# Altium footprint library Soardra.PcbLib: 139 footprints (part 5 of 9)
Each footprint in its own frame and in the unit in brackets; x right, y up, seen from the top. Pads: shape width x height; smd on the part's side, far side on the other; paste and mask are expansions set on the pad; w line width, h text height; cw(c..) or ccw(c..) is an arc to the next point about the centre after c.
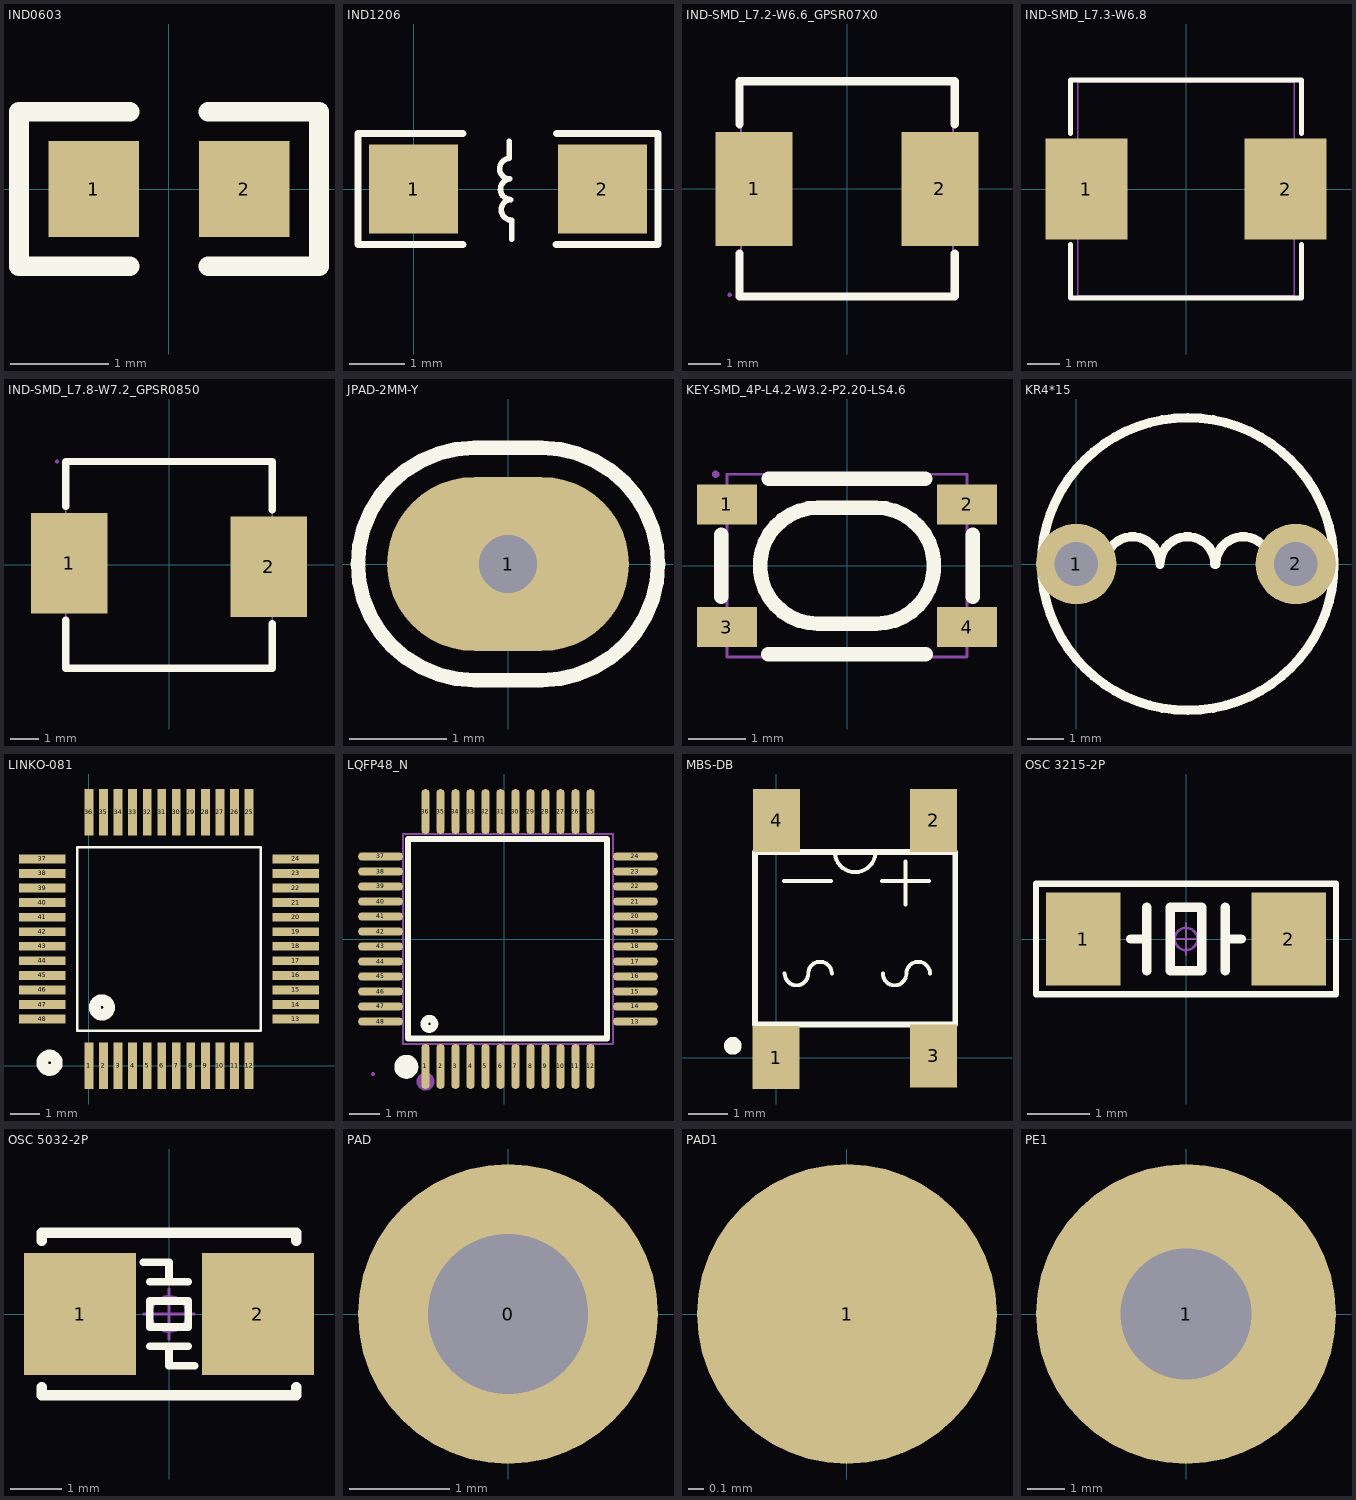
[diagram p4: the footprints below, top view; thin cyan lines are the x and y axes]

## IND0603 [mm]
height 15
pads (2):
  rect 0.93x0.98 smd: 1(-0.77,0) 2(0.77,0)
Top Overlay:
  lines w0.2: -0.4,-0.79 -1.535,-0.79 -1.535,0.79 -0.4,0.79 ; 0.4,-0.79 1.535,-0.79 1.535,0.79 0.4,0.79
3D body "User Library-RES_1609-0603.STEP": height 0.56, standoff 0, extent -0.85,-0.4 0.85,0.4

## IND1206 [mm]
pads (2):
  rect 1.6x1.6 smd: 1(0,0) 2(3.4,0)
Top Overlay:
  lines w0.1: 1.72,0.86 1.72,0.551 ccw(c1.735,0.366) 1.735,0.181 ccw(c1.75,-0.004) 1.75,-0.19 ccw(c1.765,-0.375) 1.765,-0.561 1.765,-0.904
  lines w0.127: 0.89,-1 -1,-1 -1,1 0.89,1 ; 2.567,-1 4.4,-1 4.4,1 2.577,1

## IND-SMD_L7.2-W6.6_GPSR07X0 [mm]
pads (2):
  rect 2.35x3.5 smd: 1(-2.85,0) 2(2.85,0)
Top Overlay:
  lines w0.254: -3.3,-1.981 -3.3,-3.3 3.3,-3.3 3.3,-1.981 ; -3.3,1.981 -3.3,3.3 3.3,3.3 3.3,1.981
Mechanical 15:
  region: -3.54,-3.25 -3.54,-3.225 -3.575,-3.19 -3.625,-3.19 -3.66,-3.225 -3.66,-3.25 -3.66,-3.275 -3.625,-3.31 -3.575,-3.31 -3.54,-3.275 -3.54,-3.25
  region: 1.9,1.5 3.6,1.5 3.6,-1.5 1.9,-1.5
  region: -1.9,-1.5 -3.6,-1.5 -3.6,1.5 -1.9,1.5
  lines w0.051: -3.25,-3.25 3.25,-3.25 3.25,3.25 -3.25,3.25 -3.25,-3.25

## IND-SMD_L7.3-W6.8 [mm] "SMD"
height 0.5
pads (2):
  rect 2.524x3.12 smd: 1(-3.078,0) 2(3.078,0)
Top Overlay:
  lines w0.152: -3.576,-1.712 -3.576,-3.376 3.576,-3.376 3.576,-1.712 ; -3.576,1.712 -3.576,3.376 3.576,3.376 3.576,1.712
Mechanical 15:
  region: -1.948,-1.45 -3.548,-1.45 -3.548,1.45 -1.948,1.45
  region: 1.951,1.45 3.551,1.45 3.551,-1.45 1.951,-1.45
  region: -3.492,-3.307 -3.492,-3.282 -3.527,-3.247 -3.577,-3.247 -3.612,-3.282 -3.612,-3.307 -3.612,-3.332 -3.577,-3.367 -3.527,-3.367 -3.492,-3.332 -3.492,-3.307
  lines w0.051: -3.35,-3.3 3.35,-3.3 3.35,3.3 -3.35,3.3 -3.35,-3.3

## IND-SMD_L7.8-W7.2_GPSR0850 [mm]
pads (2):
  rect 2.65x3.5 smd: 1(-3.475,0.064) 2(3.475,-0.064)
Top Overlay:
  lines w0.254: -3.6,-1.918 -3.6,-3.6 3.6,-3.6 3.6,-2.045 ; -3.6,2.045 -3.6,3.6 3.6,3.6 3.6,1.918
Mechanical 15:
  region: -2.3,1.563 -2.3,-1.436 -3.9,-1.436 -3.9,1.563
  region: 3.9,1.436 3.9,-1.563 2.3,-1.563 2.3,1.436
  region: -3.84,3.6 -3.84,3.625 -3.875,3.66 -3.925,3.66 -3.96,3.625 -3.96,3.6 -3.96,3.575 -3.925,3.54 -3.875,3.54 -3.84,3.575 -3.84,3.6
  lines w0.051: -3.6,-3.6 3.6,-3.6 3.6,3.6 -3.6,3.6 -3.6,-3.6

## JPAD-2MM-Y [mm]
height 0.5
pads (1):
  oval 2.5x1.8 hole 0.6: 1(0,0)
Top Overlay:
  lines w0.15: -0.35,-1.2 cw(c-0.35,0) -0.35,1.2 0.35,1.2 cw(c0.35,0) 0.35,-1.2 -0.35,-1.2

## KEY-SMD_4P-L4.2-W3.2-P2.20-LS4.6 [mm]
pads (4):
  rect 1.05x0.7 smd paste+0 mask+0.051: 1(-2.1,1.075) 2(2.1,1.075) 3(-2.1,-1.075) 4(2.1,-1.075)
Top Overlay:
  lines w0.254: -2.2,-0.544 -2.2,0.544 ; -1.381,-1.55 1.381,-1.55 ; -1.366,1.524 1.366,1.524 ; 2.2,-0.544 2.2,0.544 ; -0.508,-1.016 cw(c-0.508,0) -0.508,1.016 0.508,1.016 cw(c0.508,0) 0.508,-1.016 -0.508,-1.016
Mechanical 15:
  region: -2.24,1.6 -2.24,1.625 -2.275,1.66 -2.325,1.66 -2.36,1.625 -2.36,1.6 -2.36,1.575 -2.325,1.54 -2.275,1.54 -2.24,1.575 -2.24,1.6
  region: 1.651,-0.8 2.351,-0.8 2.351,-1.35 1.651,-1.35
  region: -2.35,-0.8 -1.65,-0.8 -1.65,-1.35 -2.35,-1.35
  region: 1.651,1.35 2.351,1.35 2.351,0.8 1.651,0.8
  region: -2.35,1.35 -1.65,1.35 -1.65,0.8 -2.35,0.8
  lines w0.051: -2.1,-1.6 2.1,-1.6 2.1,1.6 -2.1,1.6 -2.1,-1.6

## KR4*15 [mm]
pads (2):
  round 2.2 hole 1.2: 1(0,0) 2(6,0)
Top Overlay:
  circle w0.254: c3.048,0 r4
  lines w0.254: 0.789,-0.005 cw(c1.539,-0.005) 2.289,-0.005 cw(c3.039,-0.005) 3.789,-0.005 ; 3.813,-0.005 cw(c4.563,-0.005) 5.313,-0.005

## LINKO-081 [mm]
pads (48):
  rect 0.3x1.6 smd: 1(0,0) 2(0.5,0) 3(1,0) 4(1.5,0) 5(2,0) 6(2.5,0) 7(3,0) 8(3.5,0) 9(4,0) 10(4.5,0) 11(5,0) 12(5.5,0) 25(5.5,8.7) 26(5,8.7) 27(4.5,8.7) 28(4,8.7) 29(3.5,8.7) 30(3,8.7) 31(2.5,8.7) 32(2,8.7) 33(1.5,8.7) 34(1,8.7) 35(0.5,8.7) 36(0,8.7)
  rect 1.6x0.3 smd: 13(7.1,1.6) 14(7.1,2.1) 15(7.1,2.6) 16(7.1,3.1) 17(7.1,3.6) 18(7.1,4.1) 19(7.1,4.6) 20(7.1,5.1) 21(7.1,5.6) 22(7.1,6.1) 23(7.1,6.6) 24(7.1,7.1) 37(-1.6,7.1) 38(-1.6,6.6) 39(-1.6,6.1) 40(-1.6,5.6) 41(-1.6,5.1) 42(-1.6,4.6) 43(-1.6,4.1) 44(-1.6,3.6) 45(-1.6,3.1) 46(-1.6,2.6) 47(-1.6,2.1) 48(-1.6,1.6)
Top Overlay:
  circle w0.4: c0.45,2 r0.25
  circle w0.4: c-1.35,0.1 r0.25
  lines w0.1: -0.4,1.2 -0.4,7.5 5.9,7.5 5.9,1.2 -0.4,1.2

## LQFP48_N [mm]
height 0.5
pads (48):
  oval 0.27x1.5 smd paste+0 mask+0.05: 1(-2.623,-4.25) 2(-2.123,-4.25) 3(-1.623,-4.25) 4(-1.123,-4.25) 5(-0.623,-4.25) 6(-0.123,-4.25) 7(0.377,-4.25) 8(0.877,-4.25) 9(1.377,-4.25) 10(1.877,-4.25) 11(2.377,-4.25) 12(2.877,-4.25) 25(2.877,4.25) 26(2.377,4.25) 27(1.877,4.25) 28(1.377,4.25) 29(0.877,4.25) 30(0.377,4.25) 31(-0.123,4.25) 32(-0.623,4.25) 33(-1.123,4.25) 34(-1.623,4.25) 35(-2.123,4.25) 36(-2.623,4.25)
  oval 1.5x0.27 smd paste+0 mask+0.05: 13(4.377,-2.75) 14(4.377,-2.25) 15(4.377,-1.75) 16(4.377,-1.25) 17(4.377,-0.75) 18(4.377,-0.25) 19(4.377,0.25) 20(4.377,0.75) 21(4.377,1.25) 22(4.377,1.75) 23(4.377,2.25) 24(4.377,2.75) 37(-4.123,2.75) 38(-4.123,2.25) 39(-4.123,1.75) 40(-4.123,1.25) 41(-4.123,0.75) 42(-4.123,0.25) 43(-4.123,-0.25) 44(-4.123,-0.75) 45(-4.123,-1.25) 46(-4.123,-1.75) 47(-4.123,-2.25) 48(-4.123,-2.75)
Top Overlay:
  circle w0.254: c-2.493,-2.83 r0.17
  lines w0.2: -2.769,3.34 3.429,3.34 3.429,-3.315 -3.2,-3.315 -3.2,3.34 -2.438,3.34
  lines w0.4: -3.263,-4.06 ccw(c-3.262,-4.26) -3.26,-4.06
Mechanical 6:
  circle w0.3: c-2.623,-4.75 r0.15
Mechanical 15:
  drawing of 101 lines, arcs and shapes, not listed

## MBS-DB [mm]
pads (4):
  rect 1.2x1.6 smd: 1(0,0) 2(4.016,6.041) 3(4.016,0.041) 4(0.016,6.041)
Top Overlay:
  circle w0.254: c-1.1,0.3 r0.1
  lines w0.1: 0.2,4.5 1.4,4.5 ; 0.221,2.141 ccw(c0.521,2.141) 0.821,2.141 cw(c1.121,2.141) 1.421,2.141 ; 1.5,5.2 ccw(c2.016,5.241) 2.532,5.197 ; 2.7,4.5 3.9,4.5 ; 2.721,2.141 ccw(c3.021,2.141) 3.321,2.141 ; 3.3,3.9 3.3,5 ; 3.321,2.14 cw(c3.621,2.14) 3.921,2.14
  lines w0.15: -0.534,0.841 -0.534,5.241 4.566,5.241 4.566,0.841 -0.534,0.841

## OSC 3215-2P [mm]
height 0.5
pads (2):
  rect 1.2x1.5 smd: 1(-1.65,0) 2(1.65,0)
Top Overlay:
  lines w0.1: -2.413,-0.889 2.413,-0.889 2.413,0.889 -2.413,0.889 -2.413,-0.889
  lines w0.152: -0.889,0 -0.635,0 ; -0.635,-0.508 -0.635,0.508 ; 0.635,-0.508 0.635,0.508 ; 0.635,0 0.889,0 ; -0.254,-0.508 -0.254,0.508 0.254,0.508 0.254,-0.508 -0.254,-0.508
Mechanical 15:
  circle w0.04: c0,0 r0.18
  lines w0.04: -0.254,0 0.254,0 ; 0,-0.254 0,0.254
3D body "OSC 3215-2.STEP": height 0.61, standoff -0.01, extent -1.6,-0.75 1.6,0.75

## OSC 5032-2P [mm]
pads (2):
  rect 2.2x2.4 smd: 1(-1.75,0) 2(1.75,0)
Top Overlay:
  lines w0.152: -0.508,1.016 0,1.016 0,0.635 ; -0.381,-0.635 0.381,-0.635 ; -0.381,0.635 0.381,0.635 ; 0,-0.635 0,-1.016 0.381,-1.016 0.508,-1.016 ; -0.381,-0.254 -0.381,0.254 0.381,0.254 0.381,-0.254 -0.381,-0.254
  lines w0.203: -2.5,-1.437 -2.5,-1.6 2.5,-1.6 2.5,-1.437 ; -2.5,1.437 -2.5,1.6 2.5,1.6 2.5,1.437
Mechanical 15:
  circle w0.05: c0,0 r0.35
  lines w0.05: -0.5,0 0.5,0 ; 0,-0.5 0,0.5
3D body "OSC 5032-2.STEP": height 0.86, standoff 0.04, extent -2.5,-1.6 2.5,1.6

## PAD [mm]
pads (1):
  round 3 hole 1.6: 0(0,0)

## PAD1 [mm]
height 0.5
pads (1):
  round 2 smd: 1(0,0)

## PE1 [mm]
pads (1):
  round 8 hole 3.5: 1(0,0)